# EAGLE library part MCP73833 (library TT-ICs)
Lithium-Polymer/Lithium-Ion Battery Charger [Part No.] Microchip MCP73833 MSOP10 (tube only): Digikey: MCP73833T-AMI/UN or MCP73833-FCI/UN-ND Mouser: 579-MCP73833-AMI/UN DFN10 (tape): Digikey: Note Chips ending in 'AMI' have no timer, and chips ending in 'FCI' have a 6-hour timer that will end the charge sequence after 6 horus regqrdless of current charge level.
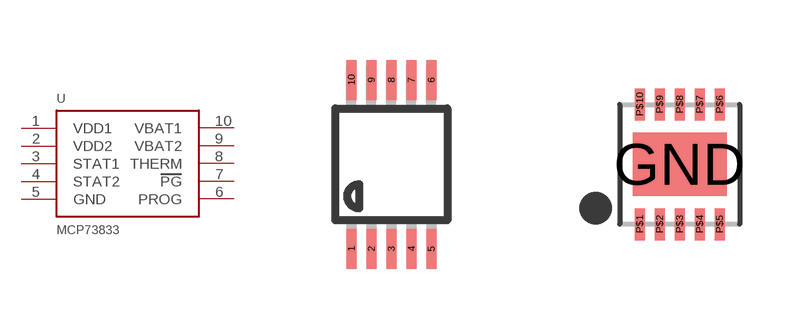
[diagram p0: symbol with the pads of MSOP10; footprints MSOP10, DFN10_3X3MM]

Designator prefix U

## MCP73833  [MSOP10]
1  VDD1
2  VDD2
3  STAT1
4  STAT2
5  GND
6  PROG
7  PG
8  THERM
9  VBAT2
10  VBAT1

## MCP73833DFN  [DFN10_3X3MM]
P$1  VDD1
P$2  VDD2
P$3  STAT1
P$4  STAT2
P$5  GND
P$6  PROG
P$7  PG
P$8  THERM
P$9  VBAT1
P$10  VBAT2

## Footprint MSOP10 (pad centres in mm)
10-Lead Mini Small Outline Package [MSOP]
smd 0.25 x 1: 1 -1,-2.113; 2 -0.5,-2.113; 3 0,-2.113; 4 0.5,-2.113; 5 1,-2.113; 6 1,2.113; 7 0.5,2.113; 8 0,2.113; 9 -0.5,2.113; 10 -1,2.113

## Footprint DFN10_3X3MM (pad centres in mm)
10-Lead 3.3mm DFN Source: http://ww1.microchip.com/downloads/en/DeviceDoc/22005b.pdf
smd 2.35 x 1.58: GND 0,0
smd 0.25 x 0.8: P$1 -1,-1.5; P$2 -0.5,-1.5; P$3 0,-1.5; P$4 0.5,-1.5; P$5 1,-1.5; P$6 1,1.5; P$7 0.5,1.5; P$8 0,1.5; P$9 -0.5,1.5; P$10 -1,1.5